# EAGLE library part _80PIN_Z8FXX23 (library Zilog-Z8-Encore-v1_2)
Z8 Encore, QFP-80 Package
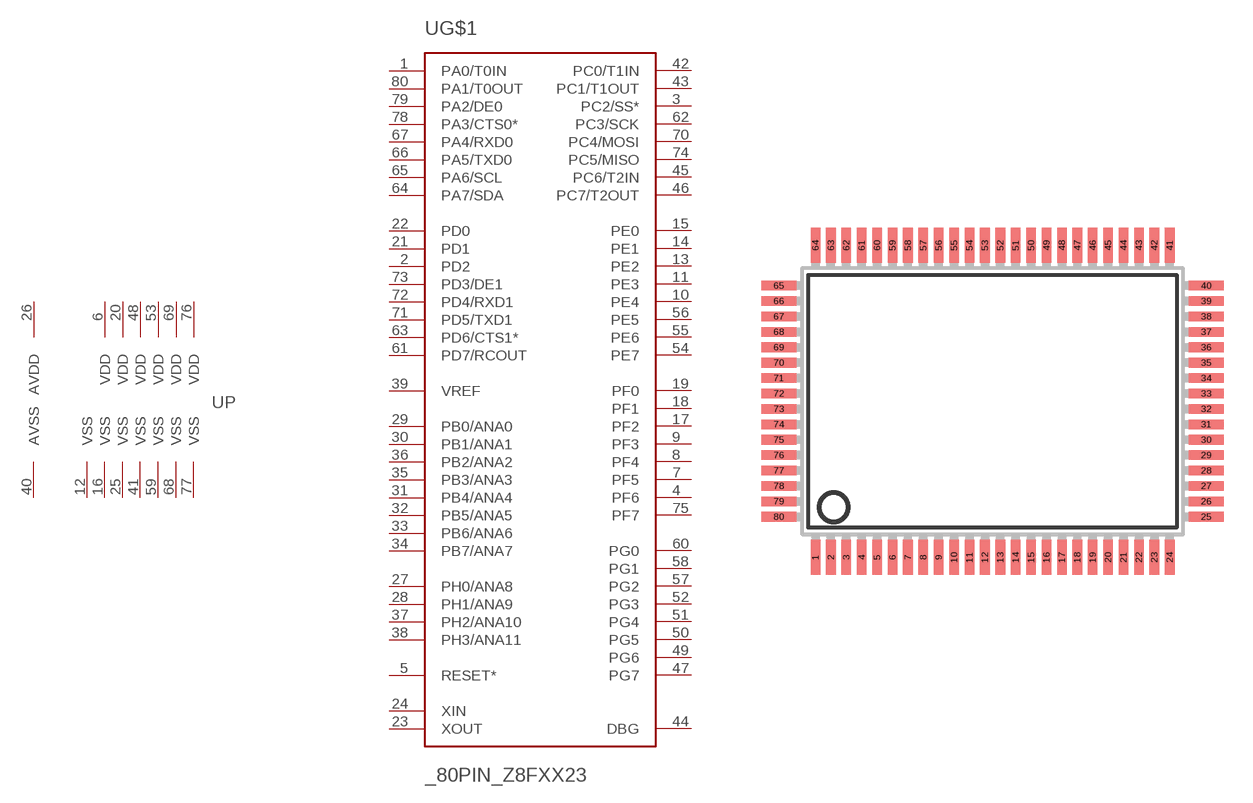
[diagram p0: symbol with the pads of SQFP-R-14X20-80; footprint SQFP-R-14X20-80]

Designator prefix U; gates G$1=Z8FXX23 P=PWR_80-PIN

## _80PIN_Z8FXX23FT  [SQFP-R-14X20-80]
1  G$1:PA0/T0IN
2  G$1:PD2
3  G$1:PC2/SS*
4  G$1:PF6
5  G$1:RESET*  in
6  P:VDD  pwr
7  G$1:PF5
8  G$1:PF4
9  G$1:PF3
10  G$1:PE4
11  G$1:PE3
12  P:VSS  pwr
13  G$1:PE2
14  G$1:PE1
15  G$1:PE0
16  P:VSS  pwr
17  G$1:PF2
18  G$1:PF1
19  G$1:PF0
20  P:VDD  pwr
21  G$1:PD1
22  G$1:PD0
23  G$1:XOUT  out
24  G$1:XIN  in
25  P:VSS  pwr
26  P:AVDD  pwr
27  G$1:PH0/ANA8
28  G$1:PH1/ANA9
29  G$1:PB0/ANA0
30  G$1:PB1/ANA1
31  G$1:PB4/ANA4
32  G$1:PB5/ANA5
33  G$1:PB6/ANA6
34  G$1:PB7/ANA7
35  G$1:PB3/ANA3
36  G$1:PB2/ANA2
37  G$1:PH2/ANA10
38  G$1:PH3/ANA11
39  G$1:VREF  pas
40  P:AVSS  pwr
41  P:VSS  pwr
42  G$1:PC0/T1IN
43  G$1:PC1/T1OUT
44  G$1:DBG
45  G$1:PC6/T2IN
46  G$1:PC7/T2OUT
47  G$1:PG7
48  P:VDD  pwr
49  G$1:PG6
50  G$1:PG5
51  G$1:PG4
52  G$1:PG3
53  P:VDD  pwr
54  G$1:PE7
55  G$1:PE6
56  G$1:PE5
57  G$1:PG2
58  G$1:PG1
59  P:VSS  pwr
60  G$1:PG0
61  G$1:PD7/RCOUT
62  G$1:PC3/SCK
63  G$1:PD6/CTS1*
64  G$1:PA7/SDA
65  G$1:PA6/SCL
66  G$1:PA5/TXD0
67  G$1:PA4/RXD0
68  P:VSS  pwr
69  P:VDD  pwr
70  G$1:PC4/MOSI
71  G$1:PD5/TXD1
72  G$1:PD4/RXD1
73  G$1:PD3/DE1
74  G$1:PC5/MISO
75  G$1:PF7
76  P:VDD  pwr
77  P:VSS  pwr
78  G$1:PA3/CTS0*
79  G$1:PA2/DE0
80  G$1:PA1/T0OUT

## Footprint SQFP-R-14X20-80 (pad centres in mm)
QFP-80 shrink quad flat pack, rectangle
smd 0.5 x 1.8: 1 -9.2,-8.1; 2 -8.4,-8.1; 3 -7.6,-8.1; 4 -6.8,-8.1; 5 -6,-8.1; 6 -5.2,-8.1; 7 -4.4,-8.1; 8 -3.6,-8.1; 9 -2.8,-8.1; 10 -2,-8.1; 11 -1.2,-8.1; 12 -0.4,-8.1; 13 0.4,-8.1; 14 1.2,-8.1; 15 2,-8.1; 16 2.8,-8.1; 17 3.6,-8.1; 18 4.4,-8.1; 19 5.2,-8.1; 20 6,-8.1; 21 6.8,-8.1; 22 7.6,-8.1; 23 8.4,-8.1; 24 9.2,-8.1; 41 9.2,8.1; 42 8.4,8.1; 43 7.6,8.1; 44 6.8,8.1; 45 6,8.1; 46 5.2,8.1; 47 4.4,8.1; 48 3.6,8.1; 49 2.8,8.1; 50 2,8.1; 51 1.2,8.1; 52 0.4,8.1; 53 -0.4,8.1; 54 -1.2,8.1; 55 -2,8.1; 56 -2.8,8.1; 57 -3.6,8.1; 58 -4.4,8.1; 59 -5.2,8.1; 60 -6,8.1; 61 -6.8,8.1; 62 -7.6,8.1; 63 -8.4,8.1; 64 -9.2,8.1
smd 1.8 x 0.5: 25 11.1,-6; 26 11.1,-5.2; 27 11.1,-4.4; 28 11.1,-3.6; 29 11.1,-2.8; 30 11.1,-2; 31 11.1,-1.2; 32 11.1,-0.4; 33 11.1,0.4; 34 11.1,1.2; 35 11.1,2; 36 11.1,2.8; 37 11.1,3.6; 38 11.1,4.4; 39 11.1,5.2; 40 11.1,6; 65 -11.1,6; 66 -11.1,5.2; 67 -11.1,4.4; 68 -11.1,3.6; 69 -11.1,2.8; 70 -11.1,2; 71 -11.1,1.2; 72 -11.1,0.4; 73 -11.1,-0.4; 74 -11.1,-1.2; 75 -11.1,-2; 76 -11.1,-2.8; 77 -11.1,-3.6; 78 -11.1,-4.4; 79 -11.1,-5.2; 80 -11.1,-6